# Altium schematic symbol library INA240A3EDRQ1.SchLib: 1 symbol
Pins are listed as number, name and electrical type; pins without a type are passive.

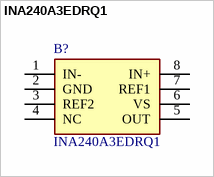
[diagram p0: symbol INA240A3EDRQ1]

## INA240A3EDRQ1
designator B?
AEC-Q100, 80V, Low-/High-Side, Bi-Directional, Zero-Drift, CSA w/Enhanced PWM Rejection; Manufacturer_Name: Texas Instruments; Geometry.Height: 1.75mm; Mouser Part Number: 595-INA240A3EDRQ1; Mouser Price/Stock: https://www.mouser.co.uk/ProductDetail/Texas-Instruments/INA240A3EDRQ1?qs=yBt6ao%2FxsTxM2fxxT9CMIw%3D%3D; Manufacturer_Part_Number: INA240A3EDRQ1; Datasheet Link: http://www.ti.com/lit/gpn/INA240-Q1
footprint SOIC127P600X175-8N
pins: 1 IN-, 2 GND, 3 REF2, 4 NC, 5 OUT, 6 VS, 7 REF1, 8 IN+